# Altium schematic symbol library elevate_lib.SchLib: 10 symbols
Pins are listed as number, name and electrical type; pins without a type are passive.

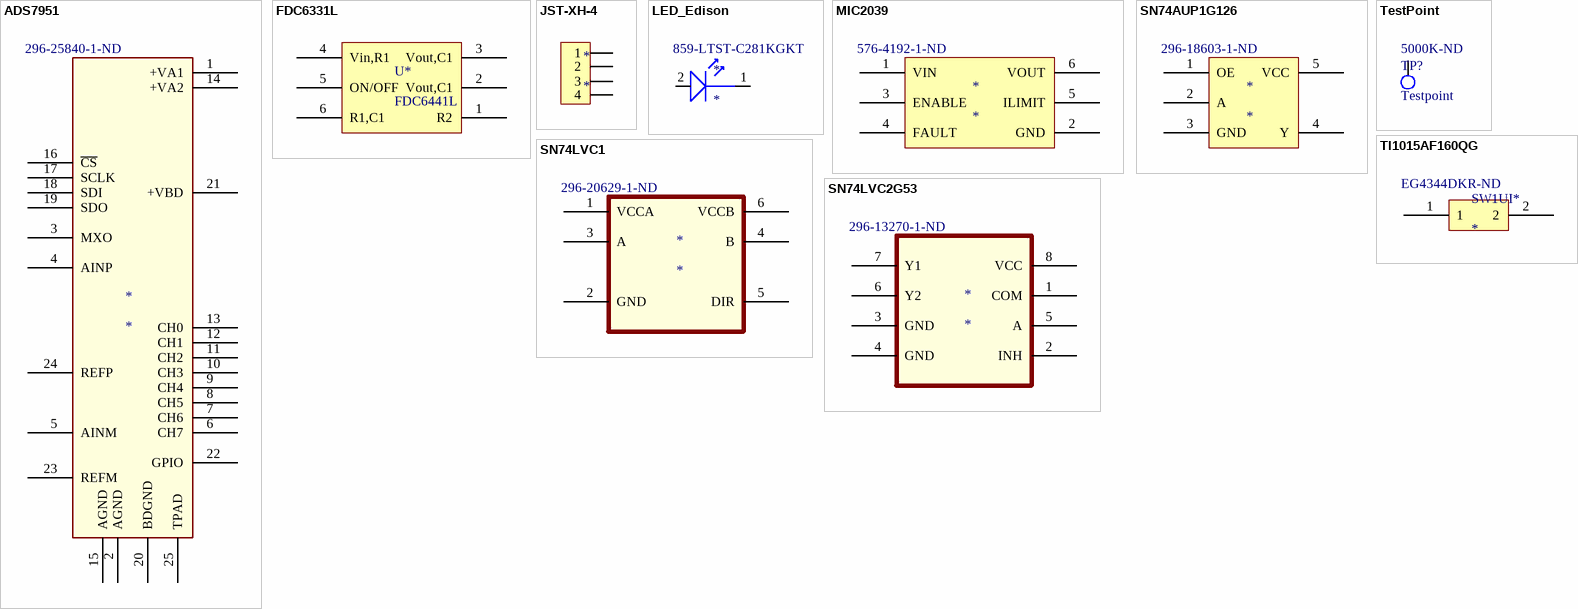
[diagram p0: symbols ADS7951 to Tl1015AF160QG]

## ADS7951
designator *  Supplier Part Number 1: 296-25840-1-ND
Supplier 1: Digi-Key
footprint S-PVQFN-N24
pins: 1 +VA1, 2 AGND (power), 3 MXO, 4 AINP, 5 AINM, 6 CH7, 7 CH6, 8 CH5, 9 CH4, 10 CH3, 11 CH2, 12 CH1, 13 CH0, 14 +VA2, 15 AGND (power), 16 ~{CS}, 17 SCLK, 18 SDI, 19 SDO, 20 BDGND (power), 21 +VBD, 22 GPIO, 23 REFM, 24 REFP, 25 TPAD

## FDC6331L
designator U*, comment FDC6441L
Load Switch; Supplier 1: Digi-Key; Supplier Part Number 1: FDC6331LCT-ND
footprint SUPERSOP6
pins: 1 R2, 2 Vout,C1, 3 Vout,C1, 4 Vin,R1, 5 ON/OFF, 6 R1,C1

## JST-XH-4
designator *
Supplier 1: Digi-Key; Supplier Part Number 1: 455-2262-1-ND
footprint JST-XH-4
pins: 1, 2, 3, 4

## LED_Edison
designator *  Supplier Part Number 1: 859-LTST-C281KGKT
Supplier 1: Mouser
footprint LTST-C281KGKT
pins: 1 LED1, 2 LED2

## MIC2039
designator *  Supplier Part Number 1: 576-4192-1-ND
Supplier 1: Digi-Key
footprint SOT23-6
pins: 1 VIN (power), 2 GND (power), 3 ENABLE (power), 4 FAULT (power), 5 ILIMIT (power), 6 VOUT (power)

## SN74AUP1G126
designator *  Supplier Part Number 1: 296-18603-1-ND
Supplier 1: Digi-Key
footprint R-PDS-N5
pins: 1 OE, 2 A, 3 GND, 4 Y, 5 VCC

## SN74LVC1
designator *  Supplier Part Number 1: 296-20629-1-ND
Supplier 1: Digi-Key
footprint R-PDSO-N6
pins: 1 VCCA, 2 GND, 3 A, 4 B, 5 DIR, 6 VCCB

## SN74LVC2G53
designator *  Supplier Part Number 1: 296-13270-1-ND
Supplier 1: Digi-Key
footprint S-PSDO-8
pins: 1 COM, 2 INH, 3 GND, 4 GND, 5 A, 6 Y2, 7 Y1, 8 VCC

## TestPoint
designator TP?, comment Testpoint  Supplier Part Number 1: 5000K-ND  (no BOM)
Supplier 1: Digi-Key
footprint Testpoint
footprint Tespoint_Keystone
pins: 1 TP

## Tl1015AF160QG
designator SW1UI*  Supplier Part Number 1: EG4344DKR-ND
Supplier 1: Digi-Key
footprint TL1015AF160QG (Simple switch)
pins: 1, 2